# Altium schematic symbol library Ind_Vishay_IHLP2020CZER3R3M01_eec.SchLib: 1 symbol
Pins are listed as number, name and electrical type; pins without a type are passive.

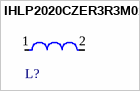
[diagram p0: symbol IHLP2020CZER3R3M01]

## IHLP2020CZER3R3M01
designator L?  (value not drawn)
pins: 1, 2